# Altium integrated library Silicon Labs Clocks and Oscillators.IntLib: 678 symbols (part 23 of 45)
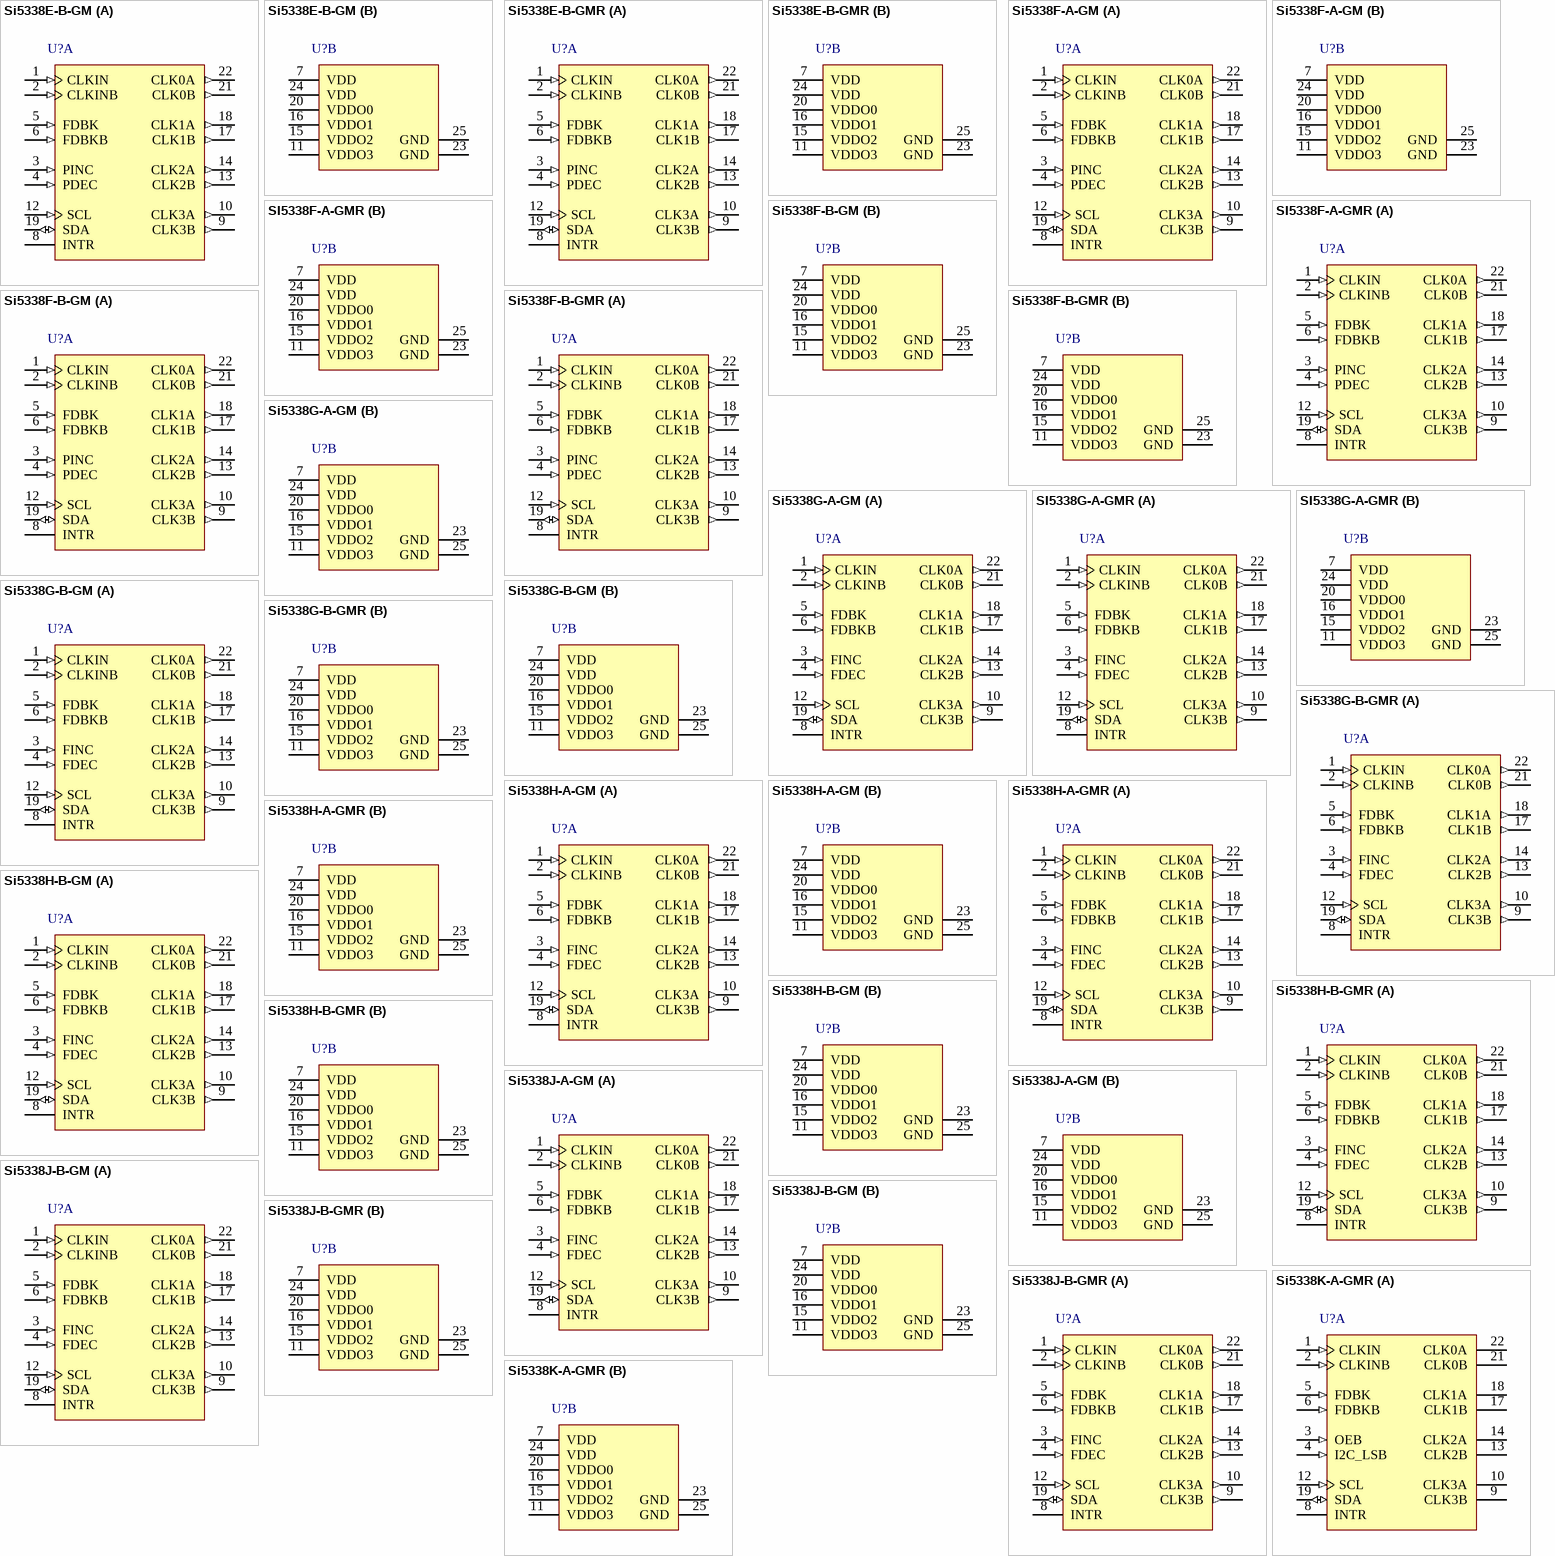
[diagram p66: symbols Si5338E-B-GM to Si5338K-A-GMR]

## Si5338G-B-GMR
designator U?
I2C-Programmable Any-Frequency, Any-Output Quad Clock Generator, 1.8 / 2.5 / 3.3 V, 0.16 to 710 MHz Output, -40 to 85 degC, 24-pin QFN, Tape and Reel; Manufacturer: Silicon Labs; PartNumber: Si5338G-B-GMR; Output Format: LVPECL; LVDS; LVCMOS; HCSL; SSTL; HSTL; Phase Jitter (RMS): 0.7 ps; Reference Inputs: 1; VDD: 1.8 V; 2.5 V; 3.3 V; Sub-Family: Clock Generators part2; DatasheetVersion: Rev. 1.3; PackageReference: QFN-24; PackageDescription: 24-Pin Quad-Flat No-Leads Package, Body 4 x 4 mm, Pitch 0.5 mm; Supplier 1: Digi-Key; Supplier Part Number 1: SI5338G-B-GMR-ND; Supplier 2: Mouser; Supplier Part Number 2: 634-SI5338G-B-GMR; Output Frequency (MHz): 0.16 to 710; Packing: Tape and Reel; Mounting Technology: Surface Mount; Code_JEDEC: MO-220; Code_IPC: J-STD-020; ComponentLink1Description: Manufacturer URL; ComponentLink1URL: http://www.silabs.com/; ComponentLink2Description: Datasheet; ComponentLink2URL: http://www.silabs.com/Support%20Documents/TechnicalDocs/Si5338.pdf; ComponentLink3Description: Package Specification; ComponentLink3URL: http://www.silabs.com/Support%20Documents/TechnicalDocs/Si5330.pdf
footprint SLAB-QFN-24-2500x2500TP_N (QFN, 24-Leads, Body 4x4mm, Pitch 0.5mm, Thermal Pad 2.5x2.5mm, IPC Medium Density)
footprint SLAB-QFN-24-2500x2500TP_L (QFN, 24-Leads, Body 4x4mm, Pitch 0.5mm, Thermal Pad 2.5x2.5mm, IPC High Density)
footprint SLAB-QFN-24-2500x2500TP_M (QFN, 24-Leads, Body 4x4mm, Pitch 0.5mm, Thermal Pad 2.5x2.5mm, IPC Low Density)
part A pins: 1 CLKIN (in) "These pins are used as the main differential clock input or as the XTAL input. See "3.2. Input Stage" on page 18, Figure 3 and Figure 4, for connection details. Clock inputs to these pins must be ac-coupled. Keep the traces (See Datasheet)", 2 CLKINB (in) "These pins are used as the main differential clock input or as the XTAL input. See "3.2. Input Stage" on page 18, Figure 3 and Figure 4, for connection details. Clock inputs to these pins must be ac-coupled. Keep the traces (See Datasheet)", 3 FINC (in) "FINC (for Si5338G/H/J devices only) Used as the frequency increment pin. See "3.10.1. Frequency Increment/Decrement" on page 26 for more details. Minimum pulse width of 100 ns is required for proper operation. If this pin is (See Datasheet)", 4 FDEC (in) "FDEC (for Si5338G/H/J devices only) Used as the frequency decrement pin. See “3.10.1. Frequency Increment/Decrement” for more details. Minimum pulse width of 100 ns is required for proper operation. If this pin is (See Datasheet)", 5 FDBK (in) "These pins can be used as a differential feedback input in zero delay mode or as a secondary clock input. See section 3.2, Figure 3, for termination details. See "3.10.6. Zero-Delay Mode" on page 27 for zero delay mode (See Datasheet)", 6 FDBKB (in) "These pins can be used as a differential feedback input in zero delay mode or as a secondary clock input. See section 3.2, Figure 3, for termination details. See "3.10.6. Zero-Delay Mode" on page 27 for zero delay mode (See Datasheet)", 8 INTR (oc) "Interrupt.", 9 CLK3B (out) "Output Clock B for Channel 3.", 10 CLK3A (out) "Output Clock A for Channel 3.", 12 SCL (in) "I2C Serial Clock Input", 13 CLK2B (out) "Output Clock B for Channel 2.", 14 CLK2A (out) "Output Clock A for Channel 2.", 17 CLK1B (out) "Output Clock B for Channel 1.", 18 CLK1A (out) "Output Clock A for Channel 1.", 19 SDA (io) "I2C Serial Data.", 21 CLK0B (out) "Output Clock B for Channel 0.", 22 CLK0A (out) "Output ClockA for Channel 0."
part B pins: 7 VDD (power) "Core Supply Voltage.", 11 VDDO3 (power) "Output Clock Supply Voltage.", 15 VDDO2 (power) "Output Clock Supply Voltage", 16 VDDO1 (power) "Output Clock Supply Voltage", 20 VDDO0 (power) "Output Clock Supply Voltage.", 23 GND (power) "Ground.", 24 VDD (power) "Core Supply Voltage.", 25 GND (power) "Ground Pad"

## Si5338H-A-GM
designator U?
I2C-Programmable Any-Frequency, Any-Output Quad Clock Generator, 1.8 / 2.5 / 3.3 V, 0.16 to 350 MHz Output, -40 to 85 degC, 24-pin QFN; Manufacturer: Silicon Labs; PartNumber: Si5338H-A-GM; Output Format: LVPECL; LVDS; LVCMOS; HCSL; SSTL; HSTL; Reference Inputs: 1; VDD: 1.8 V; 2.5 V; 3.3 V; Sub-Family: Clock Generators part2; DatasheetVersion: Rev. 1.3; PackageReference: QFN-24; PackageDescription: 24-Pin Quad-Flat No-Leads Package, Body 4 x 4 mm, Pitch 0.5 mm; Supplier 1: Digi-Key; Supplier Part Number 1: SI5338H-A-GM-ND; Supplier 2: Mouser; Supplier Part Number 2: 634-SI5338H-A-GM; Output Frequency (MHz): 0.16 to 350; Mounting Technology: Surface Mount; Code_JEDEC: MO-220; Code_IPC: J-STD-020; ComponentLink1Description: Manufacturer URL; ComponentLink1URL: http://www.silabs.com/; ComponentLink2Description: Datasheet; ComponentLink2URL: http://www.silabs.com/Support%20Documents/TechnicalDocs/Si5338.pdf; ComponentLink3Description: Package Specification; ComponentLink3URL: http://www.silabs.com/Support%20Documents/TechnicalDocs/Si5330.pdf
footprint SLAB-QFN-24-2500x2500TP_N (QFN, 24-Leads, Body 4x4mm, Pitch 0.5mm, Thermal Pad 2.5x2.5mm, IPC Medium Density)
footprint SLAB-QFN-24-2500x2500TP_L (QFN, 24-Leads, Body 4x4mm, Pitch 0.5mm, Thermal Pad 2.5x2.5mm, IPC High Density)
footprint SLAB-QFN-24-2500x2500TP_M (QFN, 24-Leads, Body 4x4mm, Pitch 0.5mm, Thermal Pad 2.5x2.5mm, IPC Low Density)
part A pins: 1 CLKIN (in) "These pins are used as the main differential clock input or as the XTAL input. See "3.2. Input Stage" on page 18, Figure 3 and Figure 4, for connection details. Clock inputs to these pins must be ac-coupled. Keep the traces (See Datasheet)", 2 CLKINB (in) "These pins are used as the main differential clock input or as the XTAL input. See "3.2. Input Stage" on page 18, Figure 3 and Figure 4, for connection details. Clock inputs to these pins must be ac-coupled. Keep the traces (See Datasheet)", 3 FINC (in) "FINC (for Si5338G/H/J devices only) Used as the frequency increment pin. See "3.10.1. Frequency Increment/Decrement" on page 26 for more details. Minimum pulse width of 100 ns is required for proper operation. If this pin is (See Datasheet)", 4 FDEC (in) "FDEC (for Si5338G/H/J devices only) Used as the frequency decrement pin. See “3.10.1. Frequency Increment/Decrement” for more details. Minimum pulse width of 100 ns is required for proper operation. If this pin is (See Datasheet)", 5 FDBK (in) "These pins can be used as a differential feedback input in zero delay mode or as a secondary clock input. See section 3.2, Figure 3, for termination details. See "3.10.6. Zero-Delay Mode" on page 27 for zero delay mode (See Datasheet)", 6 FDBKB (in) "These pins can be used as a differential feedback input in zero delay mode or as a secondary clock input. See section 3.2, Figure 3, for termination details. See "3.10.6. Zero-Delay Mode" on page 27 for zero delay mode (See Datasheet)", 8 INTR (oc) "Interrupt.", 9 CLK3B (out) "Output Clock B for Channel 3.", 10 CLK3A (out) "Output Clock A for Channel 3.", 12 SCL (in) "I2C Serial Clock Input", 13 CLK2B (out) "Output Clock B for Channel 2.", 14 CLK2A (out) "Output Clock A for Channel 2.", 17 CLK1B (out) "Output Clock B for Channel 1.", 18 CLK1A (out) "Output Clock A for Channel 1.", 19 SDA (io) "I2C Serial Data.", 21 CLK0B (out) "Output Clock B for Channel 0.", 22 CLK0A (out) "Output ClockA for Channel 0."
part B pins: 7 VDD (power) "Core Supply Voltage.", 11 VDDO3 (power) "Output Clock Supply Voltage.", 15 VDDO2 (power) "Output Clock Supply Voltage", 16 VDDO1 (power) "Output Clock Supply Voltage", 20 VDDO0 (power) "Output Clock Supply Voltage.", 23 GND (power) "Ground.", 24 VDD (power) "Core Supply Voltage.", 25 GND (power) "Ground Pad"

## Si5338H-A-GMR
designator U?
I2C-Programmable Any-Frequency, Any-Output Quad Clock Generator, 1.8 / 2.5 / 3.3 V, 0.16 to 350 MHz Output, -40 to 85 degC, 24-pin QFN, Tape and Reel; Manufacturer: Silicon Labs; PartNumber: Si5338H-A-GMR; Output Format: LVPECL; LVDS; LVCMOS; HCSL; SSTL; HSTL; Phase Jitter (RMS): 0.7 ps; Reference Inputs: 1; VDD: 1.8 V; 2.5 V; 3.3 V; Sub-Family: Clock Generators part2; DatasheetVersion: Rev. 1.3; PackageReference: QFN-24; PackageDescription: 24-Pin Quad-Flat No-Leads Package, Body 4 x 4 mm, Pitch 0.5 mm; Supplier 1: Mouser; Supplier Part Number 1: 634-SI5338H-A-GMR; Output Frequency (MHz): 0.16 to 350; Packing: Tape and Reel; Mounting Technology: Surface Mount; Code_JEDEC: MO-220; Code_IPC: J-STD-020; ComponentLink1Description: Manufacturer URL; ComponentLink1URL: http://www.silabs.com/; ComponentLink2Description: Datasheet; ComponentLink2URL: http://www.silabs.com/Support%20Documents/TechnicalDocs/Si5338.pdf; ComponentLink3Description: Package Specification; ComponentLink3URL: http://www.silabs.com/Support%20Documents/TechnicalDocs/Si5330.pdf
footprint SLAB-QFN-24-2500x2500TP_N (QFN, 24-Leads, Body 4x4mm, Pitch 0.5mm, Thermal Pad 2.5x2.5mm, IPC Medium Density)
footprint SLAB-QFN-24-2500x2500TP_L (QFN, 24-Leads, Body 4x4mm, Pitch 0.5mm, Thermal Pad 2.5x2.5mm, IPC High Density)
footprint SLAB-QFN-24-2500x2500TP_M (QFN, 24-Leads, Body 4x4mm, Pitch 0.5mm, Thermal Pad 2.5x2.5mm, IPC Low Density)
part A pins: 1 CLKIN (in) "These pins are used as the main differential clock input or as the XTAL input. See "3.2. Input Stage" on page 18, Figure 3 and Figure 4, for connection details. Clock inputs to these pins must be ac-coupled. Keep the traces (See Datasheet)", 2 CLKINB (in) "These pins are used as the main differential clock input or as the XTAL input. See "3.2. Input Stage" on page 18, Figure 3 and Figure 4, for connection details. Clock inputs to these pins must be ac-coupled. Keep the traces (See Datasheet)", 3 FINC (in) "FINC (for Si5338G/H/J devices only) Used as the frequency increment pin. See "3.10.1. Frequency Increment/Decrement" on page 26 for more details. Minimum pulse width of 100 ns is required for proper operation. If this pin is (See Datasheet)", 4 FDEC (in) "FDEC (for Si5338G/H/J devices only) Used as the frequency decrement pin. See “3.10.1. Frequency Increment/Decrement” for more details. Minimum pulse width of 100 ns is required for proper operation. If this pin is (See Datasheet)", 5 FDBK (in) "These pins can be used as a differential feedback input in zero delay mode or as a secondary clock input. See section 3.2, Figure 3, for termination details. See "3.10.6. Zero-Delay Mode" on page 27 for zero delay mode (See Datasheet)", 6 FDBKB (in) "These pins can be used as a differential feedback input in zero delay mode or as a secondary clock input. See section 3.2, Figure 3, for termination details. See "3.10.6. Zero-Delay Mode" on page 27 for zero delay mode (See Datasheet)", 8 INTR (oc) "Interrupt.", 9 CLK3B (out) "Output Clock B for Channel 3.", 10 CLK3A (out) "Output Clock A for Channel 3.", 12 SCL (in) "I2C Serial Clock Input", 13 CLK2B (out) "Output Clock B for Channel 2.", 14 CLK2A (out) "Output Clock A for Channel 2.", 17 CLK1B (out) "Output Clock B for Channel 1.", 18 CLK1A (out) "Output Clock A for Channel 1.", 19 SDA (io) "I2C Serial Data.", 21 CLK0B (out) "Output Clock B for Channel 0.", 22 CLK0A (out) "Output ClockA for Channel 0."
part B pins: 7 VDD (power) "Core Supply Voltage.", 11 VDDO3 (power) "Output Clock Supply Voltage.", 15 VDDO2 (power) "Output Clock Supply Voltage", 16 VDDO1 (power) "Output Clock Supply Voltage", 20 VDDO0 (power) "Output Clock Supply Voltage.", 23 GND (power) "Ground.", 24 VDD (power) "Core Supply Voltage.", 25 GND (power) "Ground Pad"

## Si5338H-B-GM
designator U?
I2C-Programmable Any-Frequency, Any-Output Quad Clock Generator, 1.8 / 2.5 / 3.3 V, 0.16 to 350 MHz Output, -40 to 85 degC, 24-pin QFN; Manufacturer: Silicon Labs; PartNumber: Si5338H-B-GM; Output Format: LVPECL; LVDS; LVCMOS; HCSL; SSTL; HSTL; Reference Inputs: 1; VDD: 1.8 V; 2.5 V; 3.3 V; Sub-Family: Clock Generators part2; DatasheetVersion: Rev. 1.3; PackageReference: QFN-24; PackageDescription: 24-Pin Quad-Flat No-Leads Package, Body 4 x 4 mm, Pitch 0.5 mm; Supplier 1: Digi-Key; Supplier Part Number 1: SI5338H-B-GM-ND; Supplier 2: Mouser; Supplier Part Number 2: 634-SI5338H-B-GM; Output Frequency (MHz): 0.16 to 350; Mounting Technology: Surface Mount; Code_JEDEC: MO-220; Code_IPC: J-STD-020; ComponentLink1Description: Manufacturer URL; ComponentLink1URL: http://www.silabs.com/; ComponentLink2Description: Datasheet; ComponentLink2URL: http://www.silabs.com/Support%20Documents/TechnicalDocs/Si5338.pdf; ComponentLink3Description: Package Specification; ComponentLink3URL: http://www.silabs.com/Support%20Documents/TechnicalDocs/Si5330.pdf
footprint SLAB-QFN-24-2500x2500TP_N (QFN, 24-Leads, Body 4x4mm, Pitch 0.5mm, Thermal Pad 2.5x2.5mm, IPC Medium Density)
footprint SLAB-QFN-24-2500x2500TP_L (QFN, 24-Leads, Body 4x4mm, Pitch 0.5mm, Thermal Pad 2.5x2.5mm, IPC High Density)
footprint SLAB-QFN-24-2500x2500TP_M (QFN, 24-Leads, Body 4x4mm, Pitch 0.5mm, Thermal Pad 2.5x2.5mm, IPC Low Density)
part A pins: 1 CLKIN (in) "These pins are used as the main differential clock input or as the XTAL input. See "3.2. Input Stage" on page 18, Figure 3 and Figure 4, for connection details. Clock inputs to these pins must be ac-coupled. Keep the traces (See Datasheet)", 2 CLKINB (in) "These pins are used as the main differential clock input or as the XTAL input. See "3.2. Input Stage" on page 18, Figure 3 and Figure 4, for connection details. Clock inputs to these pins must be ac-coupled. Keep the traces (See Datasheet)", 3 FINC (in) "FINC (for Si5338G/H/J devices only) Used as the frequency increment pin. See "3.10.1. Frequency Increment/Decrement" on page 26 for more details. Minimum pulse width of 100 ns is required for proper operation. If this pin is (See Datasheet)", 4 FDEC (in) "FDEC (for Si5338G/H/J devices only) Used as the frequency decrement pin. See “3.10.1. Frequency Increment/Decrement” for more details. Minimum pulse width of 100 ns is required for proper operation. If this pin is (See Datasheet)", 5 FDBK (in) "These pins can be used as a differential feedback input in zero delay mode or as a secondary clock input. See section 3.2, Figure 3, for termination details. See "3.10.6. Zero-Delay Mode" on page 27 for zero delay mode (See Datasheet)", 6 FDBKB (in) "These pins can be used as a differential feedback input in zero delay mode or as a secondary clock input. See section 3.2, Figure 3, for termination details. See "3.10.6. Zero-Delay Mode" on page 27 for zero delay mode (See Datasheet)", 8 INTR (oc) "Interrupt.", 9 CLK3B (out) "Output Clock B for Channel 3.", 10 CLK3A (out) "Output Clock A for Channel 3.", 12 SCL (in) "I2C Serial Clock Input", 13 CLK2B (out) "Output Clock B for Channel 2.", 14 CLK2A (out) "Output Clock A for Channel 2.", 17 CLK1B (out) "Output Clock B for Channel 1.", 18 CLK1A (out) "Output Clock A for Channel 1.", 19 SDA (io) "I2C Serial Data.", 21 CLK0B (out) "Output Clock B for Channel 0.", 22 CLK0A (out) "Output ClockA for Channel 0."
part B pins: 7 VDD (power) "Core Supply Voltage.", 11 VDDO3 (power) "Output Clock Supply Voltage.", 15 VDDO2 (power) "Output Clock Supply Voltage", 16 VDDO1 (power) "Output Clock Supply Voltage", 20 VDDO0 (power) "Output Clock Supply Voltage.", 23 GND (power) "Ground.", 24 VDD (power) "Core Supply Voltage.", 25 GND (power) "Ground Pad"

## Si5338H-B-GMR
designator U?
I2C-Programmable Any-Frequency, Any-Output Quad Clock Generator, 1.8 / 2.5 / 3.3 V, 0.16 to 350 MHz Output, -40 to 85 degC, 24-pin QFN, Tape and Reel; Manufacturer: Silicon Labs; PartNumber: Si5338H-B-GMR; Output Format: LVPECL; LVDS; LVCMOS; HCSL; SSTL; HSTL; Phase Jitter (RMS): 0.7 ps; Reference Inputs: 1; VDD: 1.8 V; 2.5 V; 3.3 V; Sub-Family: Clock Generators part2; DatasheetVersion: Rev. 1.3; PackageReference: QFN-24; PackageDescription: 24-Pin Quad-Flat No-Leads Package, Body 4 x 4 mm, Pitch 0.5 mm; Supplier 1: Digi-Key; Supplier Part Number 1: SI5338H-B-GMR-ND; Supplier 2: Mouser; Supplier Part Number 2: 634-SI5338H-B-GMR; Output Frequency (MHz): 0.16 to 350; Packing: Tape and Reel; Mounting Technology: Surface Mount; Code_JEDEC: MO-220; Code_IPC: J-STD-020; ComponentLink1Description: Manufacturer URL; ComponentLink1URL: http://www.silabs.com/; ComponentLink2Description: Datasheet; ComponentLink2URL: http://www.silabs.com/Support%20Documents/TechnicalDocs/Si5338.pdf; ComponentLink3Description: Package Specification; ComponentLink3URL: http://www.silabs.com/Support%20Documents/TechnicalDocs/Si5330.pdf
footprint SLAB-QFN-24-2500x2500TP_N (QFN, 24-Leads, Body 4x4mm, Pitch 0.5mm, Thermal Pad 2.5x2.5mm, IPC Medium Density)
footprint SLAB-QFN-24-2500x2500TP_L (QFN, 24-Leads, Body 4x4mm, Pitch 0.5mm, Thermal Pad 2.5x2.5mm, IPC High Density)
footprint SLAB-QFN-24-2500x2500TP_M (QFN, 24-Leads, Body 4x4mm, Pitch 0.5mm, Thermal Pad 2.5x2.5mm, IPC Low Density)
part A pins: 1 CLKIN (in) "These pins are used as the main differential clock input or as the XTAL input. See "3.2. Input Stage" on page 18, Figure 3 and Figure 4, for connection details. Clock inputs to these pins must be ac-coupled. Keep the traces (See Datasheet)", 2 CLKINB (in) "These pins are used as the main differential clock input or as the XTAL input. See "3.2. Input Stage" on page 18, Figure 3 and Figure 4, for connection details. Clock inputs to these pins must be ac-coupled. Keep the traces (See Datasheet)", 3 FINC (in) "FINC (for Si5338G/H/J devices only) Used as the frequency increment pin. See "3.10.1. Frequency Increment/Decrement" on page 26 for more details. Minimum pulse width of 100 ns is required for proper operation. If this pin is (See Datasheet)", 4 FDEC (in) "FDEC (for Si5338G/H/J devices only) Used as the frequency decrement pin. See “3.10.1. Frequency Increment/Decrement” for more details. Minimum pulse width of 100 ns is required for proper operation. If this pin is (See Datasheet)", 5 FDBK (in) "These pins can be used as a differential feedback input in zero delay mode or as a secondary clock input. See section 3.2, Figure 3, for termination details. See "3.10.6. Zero-Delay Mode" on page 27 for zero delay mode (See Datasheet)", 6 FDBKB (in) "These pins can be used as a differential feedback input in zero delay mode or as a secondary clock input. See section 3.2, Figure 3, for termination details. See "3.10.6. Zero-Delay Mode" on page 27 for zero delay mode (See Datasheet)", 8 INTR (oc) "Interrupt.", 9 CLK3B (out) "Output Clock B for Channel 3.", 10 CLK3A (out) "Output Clock A for Channel 3.", 12 SCL (in) "I2C Serial Clock Input", 13 CLK2B (out) "Output Clock B for Channel 2.", 14 CLK2A (out) "Output Clock A for Channel 2.", 17 CLK1B (out) "Output Clock B for Channel 1.", 18 CLK1A (out) "Output Clock A for Channel 1.", 19 SDA (io) "I2C Serial Data.", 21 CLK0B (out) "Output Clock B for Channel 0.", 22 CLK0A (out) "Output ClockA for Channel 0."
part B pins: 7 VDD (power) "Core Supply Voltage.", 11 VDDO3 (power) "Output Clock Supply Voltage.", 15 VDDO2 (power) "Output Clock Supply Voltage", 16 VDDO1 (power) "Output Clock Supply Voltage", 20 VDDO0 (power) "Output Clock Supply Voltage.", 23 GND (power) "Ground.", 24 VDD (power) "Core Supply Voltage.", 25 GND (power) "Ground Pad"

## Si5338J-A-GM
designator U?
I2C-Programmable Any-Frequency, Any-Output Quad Clock Generator, 1.8 / 2.5 / 3.3 V, 0.16 to 200 MHz Output, -40 to 85 degC, 24-pin QFN; Manufacturer: Silicon Labs; PartNumber: Si5338J-A-GM; Output Format: LVPECL; LVDS; LVCMOS; HCSL; SSTL; HSTL; Reference Inputs: 1; VDD: 1.8 V; 2.5 V; 3.3 V; Sub-Family: Clock Generators part2; DatasheetVersion: Rev. 1.3; PackageReference: QFN-24; PackageDescription: 24-Pin Quad-Flat No-Leads Package, Body 4 x 4 mm, Pitch 0.5 mm; Supplier 1: Digi-Key; Supplier Part Number 1: SI5338J-A-GM-ND; Supplier 2: Mouser; Supplier Part Number 2: 634-SI5338J-A-GM; Output Frequency (MHz): 0.16 to 200; Mounting Technology: Surface Mount; Code_JEDEC: MO-220; Code_IPC: J-STD-020; ComponentLink1Description: Manufacturer URL; ComponentLink1URL: http://www.silabs.com/; ComponentLink2Description: Datasheet; ComponentLink2URL: http://www.silabs.com/Support%20Documents/TechnicalDocs/Si5338.pdf; ComponentLink3Description: Package Specification; ComponentLink3URL: http://www.silabs.com/Support%20Documents/TechnicalDocs/Si5330.pdf
footprint SLAB-QFN-24-2500x2500TP_N (QFN, 24-Leads, Body 4x4mm, Pitch 0.5mm, Thermal Pad 2.5x2.5mm, IPC Medium Density)
footprint SLAB-QFN-24-2500x2500TP_L (QFN, 24-Leads, Body 4x4mm, Pitch 0.5mm, Thermal Pad 2.5x2.5mm, IPC High Density)
footprint SLAB-QFN-24-2500x2500TP_M (QFN, 24-Leads, Body 4x4mm, Pitch 0.5mm, Thermal Pad 2.5x2.5mm, IPC Low Density)
part A pins: 1 CLKIN (in) "These pins are used as the main differential clock input or as the XTAL input. See "3.2. Input Stage" on page 18, Figure 3 and Figure 4, for connection details. Clock inputs to these pins must be ac-coupled. Keep the traces (See Datasheet)", 2 CLKINB (in) "These pins are used as the main differential clock input or as the XTAL input. See "3.2. Input Stage" on page 18, Figure 3 and Figure 4, for connection details. Clock inputs to these pins must be ac-coupled. Keep the traces (See Datasheet)", 3 FINC (in) "FINC (for Si5338G/H/J devices only) Used as the frequency increment pin. See "3.10.1. Frequency Increment/Decrement" on page 26 for more details. Minimum pulse width of 100 ns is required for proper operation. If this pin is (See Datasheet)", 4 FDEC (in) "FDEC (for Si5338G/H/J devices only) Used as the frequency decrement pin. See “3.10.1. Frequency Increment/Decrement” for more details. Minimum pulse width of 100 ns is required for proper operation. If this pin is (See Datasheet)", 5 FDBK (in) "These pins can be used as a differential feedback input in zero delay mode or as a secondary clock input. See section 3.2, Figure 3, for termination details. See "3.10.6. Zero-Delay Mode" on page 27 for zero delay mode (See Datasheet)", 6 FDBKB (in) "These pins can be used as a differential feedback input in zero delay mode or as a secondary clock input. See section 3.2, Figure 3, for termination details. See "3.10.6. Zero-Delay Mode" on page 27 for zero delay mode (See Datasheet)", 8 INTR (oc) "Interrupt.", 9 CLK3B (out) "Output Clock B for Channel 3.", 10 CLK3A (out) "Output Clock A for Channel 3.", 12 SCL (in) "I2C Serial Clock Input", 13 CLK2B (out) "Output Clock B for Channel 2.", 14 CLK2A (out) "Output Clock A for Channel 2.", 17 CLK1B (out) "Output Clock B for Channel 1.", 18 CLK1A (out) "Output Clock A for Channel 1.", 19 SDA (io) "I2C Serial Data.", 21 CLK0B (out) "Output Clock B for Channel 0.", 22 CLK0A (out) "Output ClockA for Channel 0."
part B pins: 7 VDD (power) "Core Supply Voltage.", 11 VDDO3 (power) "Output Clock Supply Voltage.", 15 VDDO2 (power) "Output Clock Supply Voltage", 16 VDDO1 (power) "Output Clock Supply Voltage", 20 VDDO0 (power) "Output Clock Supply Voltage.", 23 GND (power) "Ground.", 24 VDD (power) "Core Supply Voltage.", 25 GND (power) "Ground Pad"

## Si5338J-B-GM
designator U?
I2C-Programmable Any-Frequency, Any-Output Quad Clock Generator, 1.8 / 2.5 / 3.3 V, 0.16 to 200 MHz Output, -40 to 85 degC, 24-pin QFN; Manufacturer: Silicon Labs; PartNumber: Si5338J-B-GM; Output Format: LVPECL; LVDS; LVCMOS; HCSL; SSTL; HSTL; Reference Inputs: 1; VDD: 1.8 V; 2.5 V; 3.3 V; Sub-Family: Clock Generators part2; DatasheetVersion: Rev. 1.3; PackageReference: QFN-24; PackageDescription: 24-Pin Quad-Flat No-Leads Package, Body 4 x 4 mm, Pitch 0.5 mm; Supplier 1: Digi-Key; Supplier Part Number 1: SI5338J-B-GM-ND; Supplier 2: Mouser; Supplier Part Number 2: 634-SI5338J-B-GM; Output Frequency (MHz): 0.16 to 200; Mounting Technology: Surface Mount; Code_JEDEC: MO-220; Code_IPC: J-STD-020; ComponentLink1Description: Manufacturer URL; ComponentLink1URL: http://www.silabs.com/; ComponentLink2Description: Datasheet; ComponentLink2URL: http://www.silabs.com/Support%20Documents/TechnicalDocs/Si5338.pdf; ComponentLink3Description: Package Specification; ComponentLink3URL: http://www.silabs.com/Support%20Documents/TechnicalDocs/Si5330.pdf
footprint SLAB-QFN-24-2500x2500TP_N (QFN, 24-Leads, Body 4x4mm, Pitch 0.5mm, Thermal Pad 2.5x2.5mm, IPC Medium Density)
footprint SLAB-QFN-24-2500x2500TP_L (QFN, 24-Leads, Body 4x4mm, Pitch 0.5mm, Thermal Pad 2.5x2.5mm, IPC High Density)
footprint SLAB-QFN-24-2500x2500TP_M (QFN, 24-Leads, Body 4x4mm, Pitch 0.5mm, Thermal Pad 2.5x2.5mm, IPC Low Density)
part A pins: 1 CLKIN (in) "These pins are used as the main differential clock input or as the XTAL input. See "3.2. Input Stage" on page 18, Figure 3 and Figure 4, for connection details. Clock inputs to these pins must be ac-coupled. Keep the traces (See Datasheet)", 2 CLKINB (in) "These pins are used as the main differential clock input or as the XTAL input. See "3.2. Input Stage" on page 18, Figure 3 and Figure 4, for connection details. Clock inputs to these pins must be ac-coupled. Keep the traces (See Datasheet)", 3 FINC (in) "FINC (for Si5338G/H/J devices only) Used as the frequency increment pin. See "3.10.1. Frequency Increment/Decrement" on page 26 for more details. Minimum pulse width of 100 ns is required for proper operation. If this pin is (See Datasheet)", 4 FDEC (in) "FDEC (for Si5338G/H/J devices only) Used as the frequency decrement pin. See “3.10.1. Frequency Increment/Decrement” for more details. Minimum pulse width of 100 ns is required for proper operation. If this pin is (See Datasheet)", 5 FDBK (in) "These pins can be used as a differential feedback input in zero delay mode or as a secondary clock input. See section 3.2, Figure 3, for termination details. See "3.10.6. Zero-Delay Mode" on page 27 for zero delay mode (See Datasheet)", 6 FDBKB (in) "These pins can be used as a differential feedback input in zero delay mode or as a secondary clock input. See section 3.2, Figure 3, for termination details. See "3.10.6. Zero-Delay Mode" on page 27 for zero delay mode (See Datasheet)", 8 INTR (oc) "Interrupt.", 9 CLK3B (out) "Output Clock B for Channel 3.", 10 CLK3A (out) "Output Clock A for Channel 3.", 12 SCL (in) "I2C Serial Clock Input", 13 CLK2B (out) "Output Clock B for Channel 2.", 14 CLK2A (out) "Output Clock A for Channel 2.", 17 CLK1B (out) "Output Clock B for Channel 1.", 18 CLK1A (out) "Output Clock A for Channel 1.", 19 SDA (io) "I2C Serial Data.", 21 CLK0B (out) "Output Clock B for Channel 0.", 22 CLK0A (out) "Output ClockA for Channel 0."
part B pins: 7 VDD (power) "Core Supply Voltage.", 11 VDDO3 (power) "Output Clock Supply Voltage.", 15 VDDO2 (power) "Output Clock Supply Voltage", 16 VDDO1 (power) "Output Clock Supply Voltage", 20 VDDO0 (power) "Output Clock Supply Voltage.", 23 GND (power) "Ground.", 24 VDD (power) "Core Supply Voltage.", 25 GND (power) "Ground Pad"

## Si5338J-B-GMR
designator U?
I2C-Programmable Any-Frequency, Any-Output Quad Clock Generator, 1.8 / 2.5 / 3.3 V, 0.16 to 200 MHz Output, -40 to 85 degC, 24-pin QFN, Tape and Reel; Manufacturer: Silicon Labs; PartNumber: Si5338J-B-GMR; Output Format: LVPECL; LVDS; LVCMOS; HCSL; SSTL; HSTL; Phase Jitter (RMS): 0.7 ps; Reference Inputs: 1; VDD: 1.8 V; 2.5 V; 3.3 V; Sub-Family: Clock Generators part2; DatasheetVersion: Rev. 1.3; PackageReference: QFN-24; PackageDescription: 24-Pin Quad-Flat No-Leads Package, Body 4 x 4 mm, Pitch 0.5 mm; Supplier 1: Digi-Key; Supplier Part Number 1: SI5338J-B-GMR-ND; Supplier 2: Mouser; Supplier Part Number 2: 634-SI5338J-B-GMR; Output Frequency (MHz): 0.16 to 200; Packing: Tape and Reel; Mounting Technology: Surface Mount; Code_JEDEC: MO-220; Code_IPC: J-STD-020; ComponentLink1Description: Manufacturer URL; ComponentLink1URL: http://www.silabs.com/; ComponentLink2Description: Datasheet; ComponentLink2URL: http://www.silabs.com/Support%20Documents/TechnicalDocs/Si5338.pdf; ComponentLink3Description: Package Specification; ComponentLink3URL: http://www.silabs.com/Support%20Documents/TechnicalDocs/Si5330.pdf
footprint SLAB-QFN-24-2500x2500TP_N (QFN, 24-Leads, Body 4x4mm, Pitch 0.5mm, Thermal Pad 2.5x2.5mm, IPC Medium Density)
footprint SLAB-QFN-24-2500x2500TP_L (QFN, 24-Leads, Body 4x4mm, Pitch 0.5mm, Thermal Pad 2.5x2.5mm, IPC High Density)
footprint SLAB-QFN-24-2500x2500TP_M (QFN, 24-Leads, Body 4x4mm, Pitch 0.5mm, Thermal Pad 2.5x2.5mm, IPC Low Density)
part A pins: 1 CLKIN (in) "These pins are used as the main differential clock input or as the XTAL input. See "3.2. Input Stage" on page 18, Figure 3 and Figure 4, for connection details. Clock inputs to these pins must be ac-coupled. Keep the traces (See Datasheet)", 2 CLKINB (in) "These pins are used as the main differential clock input or as the XTAL input. See "3.2. Input Stage" on page 18, Figure 3 and Figure 4, for connection details. Clock inputs to these pins must be ac-coupled. Keep the traces (See Datasheet)", 3 FINC (in) "FINC (for Si5338G/H/J devices only) Used as the frequency increment pin. See "3.10.1. Frequency Increment/Decrement" on page 26 for more details. Minimum pulse width of 100 ns is required for proper operation. If this pin is (See Datasheet)", 4 FDEC (in) "FDEC (for Si5338G/H/J devices only) Used as the frequency decrement pin. See “3.10.1. Frequency Increment/Decrement” for more details. Minimum pulse width of 100 ns is required for proper operation. If this pin is (See Datasheet)", 5 FDBK (in) "These pins can be used as a differential feedback input in zero delay mode or as a secondary clock input. See section 3.2, Figure 3, for termination details. See "3.10.6. Zero-Delay Mode" on page 27 for zero delay mode (See Datasheet)", 6 FDBKB (in) "These pins can be used as a differential feedback input in zero delay mode or as a secondary clock input. See section 3.2, Figure 3, for termination details. See "3.10.6. Zero-Delay Mode" on page 27 for zero delay mode (See Datasheet)", 8 INTR (oc) "Interrupt.", 9 CLK3B (out) "Output Clock B for Channel 3.", 10 CLK3A (out) "Output Clock A for Channel 3.", 12 SCL (in) "I2C Serial Clock Input", 13 CLK2B (out) "Output Clock B for Channel 2.", 14 CLK2A (out) "Output Clock A for Channel 2.", 17 CLK1B (out) "Output Clock B for Channel 1.", 18 CLK1A (out) "Output Clock A for Channel 1.", 19 SDA (io) "I2C Serial Data.", 21 CLK0B (out) "Output Clock B for Channel 0.", 22 CLK0A (out) "Output ClockA for Channel 0."
part B pins: 7 VDD (power) "Core Supply Voltage.", 11 VDDO3 (power) "Output Clock Supply Voltage.", 15 VDDO2 (power) "Output Clock Supply Voltage", 16 VDDO1 (power) "Output Clock Supply Voltage", 20 VDDO0 (power) "Output Clock Supply Voltage.", 23 GND (power) "Ground.", 24 VDD (power) "Core Supply Voltage.", 25 GND (power) "Ground Pad"

## Si5338K-A-GMR
designator U?
I2C-Programmable Any-Frequency, Any-Output Quad Clock Generator, 1.8 / 2.5 / 3.3 V, 0.16 to 710 MHz Output, -40 to 85 degC, 24-pin QFN, Tape and Reel; Manufacturer: Silicon Labs; PartNumber: Si5338K-A-GMR; Output Format: LVPECL; LVDS; LVCMOS; HCSL; SSTL; HSTL; Phase Jitter (RMS): 0.7 ps; Reference Inputs: 1; VDD: 1.8 V; 2.5 V; 3.3 V; Sub-Family: Clock Generators part2; DatasheetVersion: Rev. 1.3; PackageReference: QFN-24; PackageDescription: 24-Pin Quad-Flat No-Leads Package, Body 4 x 4 mm, Pitch 0.5 mm; Supplier 1: Mouser; Supplier Part Number 1: 634-SI5338K-A-GMR; Output Frequency (MHz): 0.16 to 710; Packing: Tape and Reel; Mounting Technology: Surface Mount; Code_JEDEC: MO-220; Code_IPC: J-STD-020; ComponentLink1Description: Manufacturer URL; ComponentLink1URL: http://www.silabs.com/; ComponentLink2Description: Datasheet; ComponentLink2URL: http://www.silabs.com/Support%20Documents/TechnicalDocs/Si5338.pdf; ComponentLink3Description: Package Specification; ComponentLink3URL: http://www.silabs.com/Support%20Documents/TechnicalDocs/Si5330.pdf
footprint SLAB-QFN-24-2500x2500TP_N (QFN, 24-Leads, Body 4x4mm, Pitch 0.5mm, Thermal Pad 2.5x2.5mm, IPC Medium Density)
footprint SLAB-QFN-24-2500x2500TP_L (QFN, 24-Leads, Body 4x4mm, Pitch 0.5mm, Thermal Pad 2.5x2.5mm, IPC High Density)
footprint SLAB-QFN-24-2500x2500TP_M (QFN, 24-Leads, Body 4x4mm, Pitch 0.5mm, Thermal Pad 2.5x2.5mm, IPC Low Density)
part A pins: 1 CLKIN (in) "These pins are used as the main differential clock input or as the XTAL input. See 3.2. Input Stage on page 18, Figure 3 and Figure 4, for connection details. Clock inputs to these pins must be ac-coupled. Keep the traces (See Datasheet)", 2 CLKINB (in) "These pins are used as the main differential clock input or as the XTAL input. See 3.2. Input Stage on page 18, Figure 3 and Figure 4, for connection details. Clock inputs to these pins must be ac-coupled. Keep the traces (See Datasheet)", 3 OEB (in) "OEB (for Si5338K/L/M devices only) Used as an output enable pin. 0 = All outputs enabled; 1 = All outputs disabled. By default, outputs are tri-stated when disabled", 4 I2C_LSB (in) "I2C_LSB (for Si5338A/B/C and Si5338K/L/M devices only) This is the LSB of the Si5338 I2C address. 0 = I2C address 70h (111 0000), 1 = I2C address 71h (111 0001).", 5 FDBK (in) "These pins can be used as a differential feedback input in zero delay mode or as a secondary clock input. See section 3.2, Figure 3, for termination details. See "3.10.6. Zero-Delay Mode" on page 27 for zero delay mode (See Datasheet)", 6 FDBKB (in) "These pins can be used as a differential feedback input in zero delay mode or as a secondary clock input. See section 3.2, Figure 3, for termination details. See "3.10.6. Zero-Delay Mode" on page 27 for zero delay mode (See Datasheet)", 8 INTR (oc) "Interrupt.", 9 CLK3B (hiz) "Output Clock B for Channel 3.", 10 CLK3A (hiz) "Output Clock A for Channel 3.", 12 SCL (in) "I2C Serial Clock Input", 13 CLK2B (hiz) "Output Clock B for Channel 2.", 14 CLK2A (hiz) "Output Clock A for Channel 2.", 17 CLK1B (hiz) "Output Clock B for Channel 1.", 18 CLK1A (hiz) "Output Clock A for Channel 1.", 19 SDA (io) "I2C Serial Data.", 21 CLK0B (hiz) "Output Clock B for Channel 0.", 22 CLK0A (hiz) "Output ClockA for Channel 0."
part B pins: 7 VDD (power) "Core Supply Voltage.", 11 VDDO3 (power) "Output Clock Supply Voltage.", 15 VDDO2 (power) "Output Clock Supply Voltage", 16 VDDO1 (power) "Output Clock Supply Voltage", 20 VDDO0 (power) "Output Clock Supply Voltage.", 23 GND (power) "Ground.", 24 VDD (power) "Core Supply Voltage.", 25 GND (power) "Ground Pad"

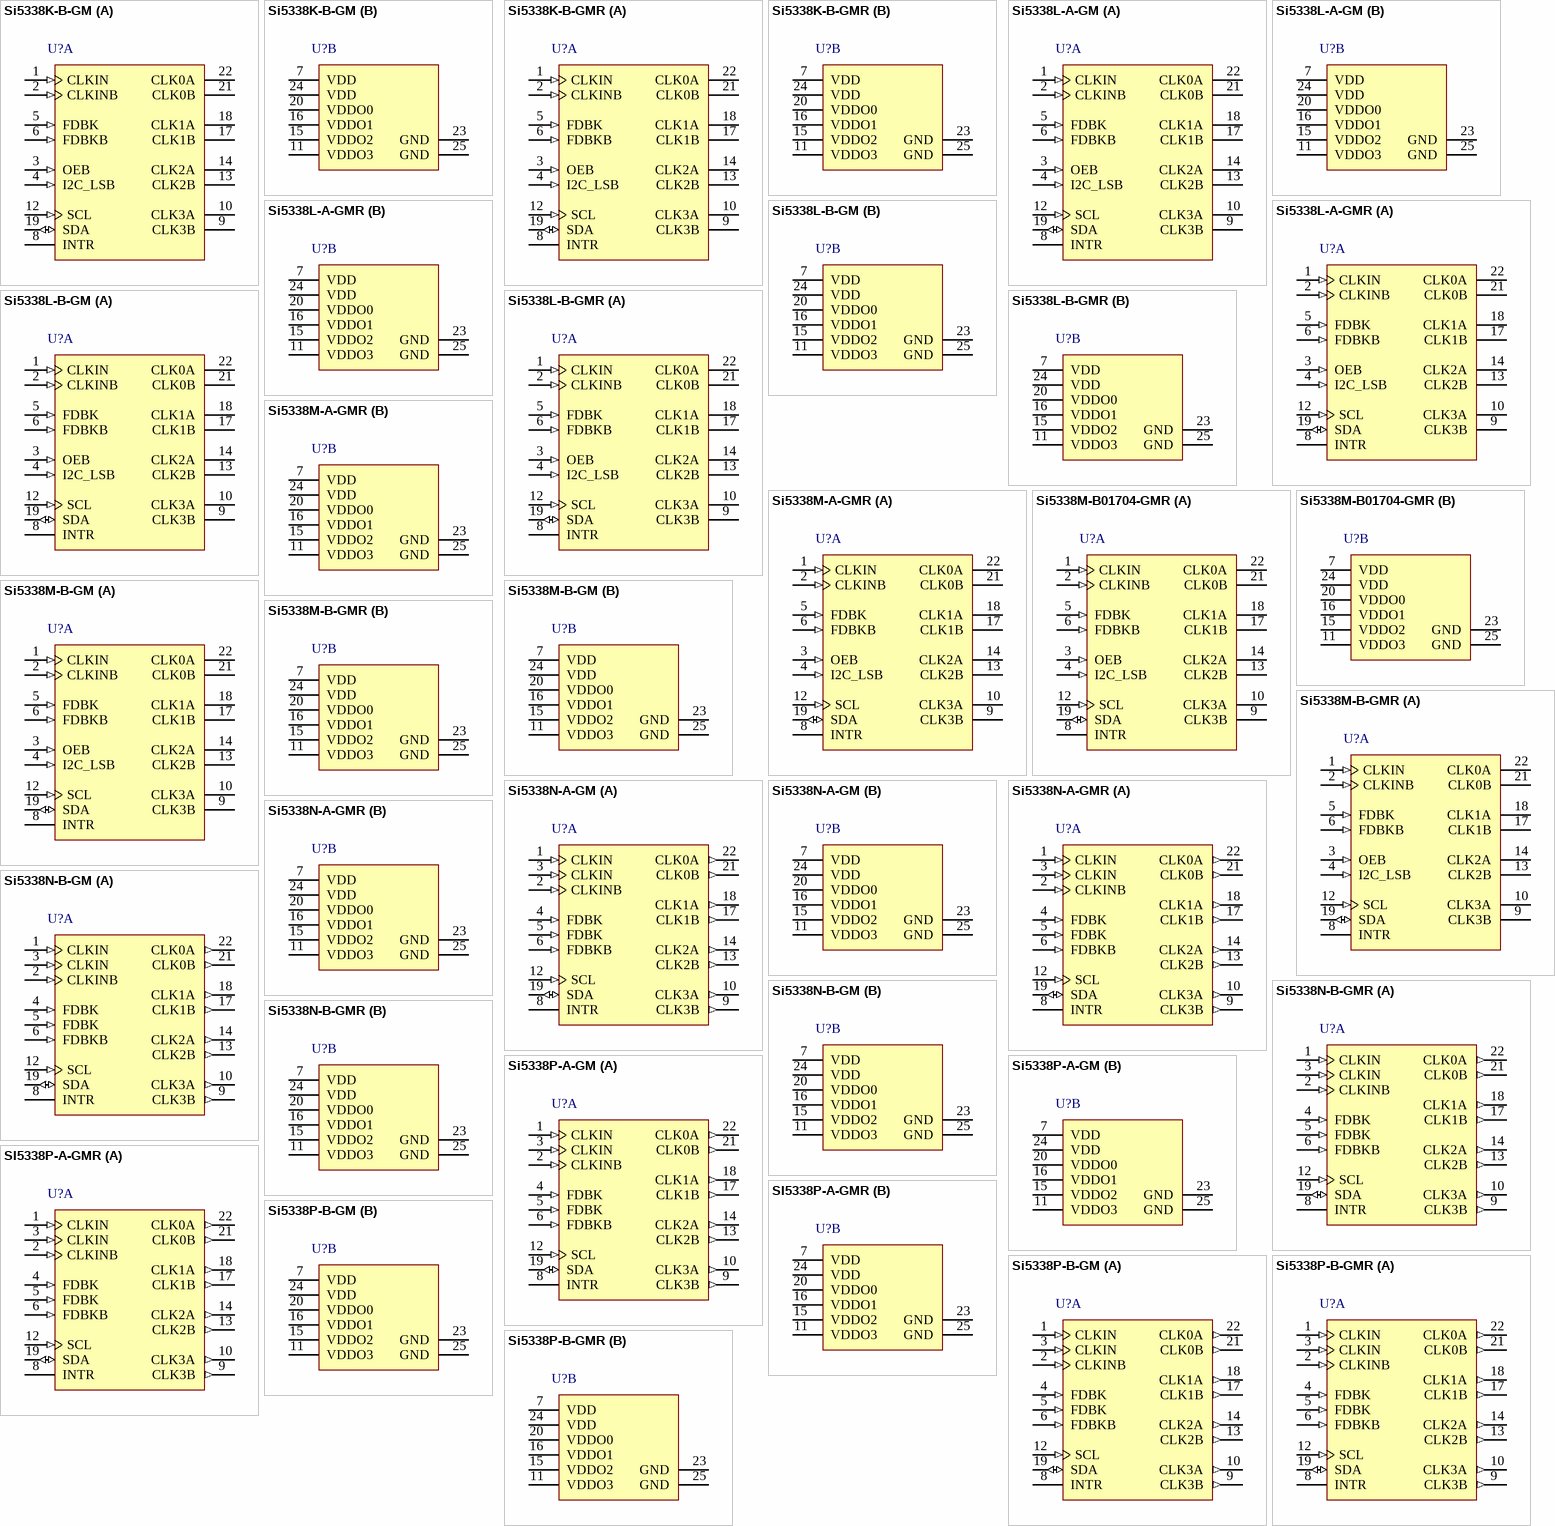
[diagram p24: symbols Si5338K-B-GM to Si5338P-B-GMR]

## Si5338K-B-GM
designator U?
I2C-Programmable Any-Frequency, Any-Output Quad Clock Generator, 1.8 / 2.5 / 3.3 V, 0.16 to 710 MHz Output, -40 to 85 degC, 24-pin QFN; Manufacturer: Silicon Labs; PartNumber: Si5338K-B-GM; Output Format: LVPECL; LVDS; LVCMOS; HCSL; SSTL; HSTL; Reference Inputs: 1; VDD: 1.8 V; 2.5 V; 3.3 V; Sub-Family: Clock Generators part2; DatasheetVersion: Rev. 1.3; PackageReference: QFN-24; PackageDescription: 24-Pin Quad-Flat No-Leads Package, Body 4 x 4 mm, Pitch 0.5 mm; Supplier 1: Digi-Key; Supplier Part Number 1: SI5338K-B-GM-ND; Supplier 2: Mouser; Supplier Part Number 2: 634-SI5338K-B-GM; Output Frequency (MHz): 0.16 to 710; Mounting Technology: Surface Mount; Code_JEDEC: MO-220; Code_IPC: J-STD-020; ComponentLink1Description: Manufacturer URL; ComponentLink1URL: http://www.silabs.com/; ComponentLink2Description: Datasheet; ComponentLink2URL: http://www.silabs.com/Support%20Documents/TechnicalDocs/Si5338.pdf; ComponentLink3Description: Package Specification; ComponentLink3URL: http://www.silabs.com/Support%20Documents/TechnicalDocs/Si5330.pdf
footprint SLAB-QFN-24-2500x2500TP_N (QFN, 24-Leads, Body 4x4mm, Pitch 0.5mm, Thermal Pad 2.5x2.5mm, IPC Medium Density)
footprint SLAB-QFN-24-2500x2500TP_L (QFN, 24-Leads, Body 4x4mm, Pitch 0.5mm, Thermal Pad 2.5x2.5mm, IPC High Density)
footprint SLAB-QFN-24-2500x2500TP_M (QFN, 24-Leads, Body 4x4mm, Pitch 0.5mm, Thermal Pad 2.5x2.5mm, IPC Low Density)
part A pins: 1 CLKIN (in) "These pins are used as the main differential clock input or as the XTAL input. See 3.2. Input Stage on page 18, Figure 3 and Figure 4, for connection details. Clock inputs to these pins must be ac-coupled. Keep the traces (See Datasheet)", 2 CLKINB (in) "These pins are used as the main differential clock input or as the XTAL input. See 3.2. Input Stage on page 18, Figure 3 and Figure 4, for connection details. Clock inputs to these pins must be ac-coupled. Keep the traces (See Datasheet)", 3 OEB (in) "OEB (for Si5338K/L/M devices only) Used as an output enable pin. 0 = All outputs enabled; 1 = All outputs disabled. By default, outputs are tri-stated when disabled", 4 I2C_LSB (in) "I2C_LSB (for Si5338A/B/C and Si5338K/L/M devices only) This is the LSB of the Si5338 I2C address. 0 = I2C address 70h (111 0000), 1 = I2C address 71h (111 0001).", 5 FDBK (in) "These pins can be used as a differential feedback input in zero delay mode or as a secondary clock input. See section 3.2, Figure 3, for termination details. See "3.10.6. Zero-Delay Mode" on page 27 for zero delay mode (See Datasheet)", 6 FDBKB (in) "These pins can be used as a differential feedback input in zero delay mode or as a secondary clock input. See section 3.2, Figure 3, for termination details. See "3.10.6. Zero-Delay Mode" on page 27 for zero delay mode (See Datasheet)", 8 INTR (oc) "Interrupt.", 9 CLK3B (hiz) "Output Clock B for Channel 3.", 10 CLK3A (hiz) "Output Clock A for Channel 3.", 12 SCL (in) "I2C Serial Clock Input", 13 CLK2B (hiz) "Output Clock B for Channel 2.", 14 CLK2A (hiz) "Output Clock A for Channel 2.", 17 CLK1B (hiz) "Output Clock B for Channel 1.", 18 CLK1A (hiz) "Output Clock A for Channel 1.", 19 SDA (io) "I2C Serial Data.", 21 CLK0B (hiz) "Output Clock B for Channel 0.", 22 CLK0A (hiz) "Output ClockA for Channel 0."
part B pins: 7 VDD (power) "Core Supply Voltage.", 11 VDDO3 (power) "Output Clock Supply Voltage.", 15 VDDO2 (power) "Output Clock Supply Voltage", 16 VDDO1 (power) "Output Clock Supply Voltage", 20 VDDO0 (power) "Output Clock Supply Voltage.", 23 GND (power) "Ground.", 24 VDD (power) "Core Supply Voltage.", 25 GND (power) "Ground Pad"

## Si5338K-B-GMR
designator U?
I2C-Programmable Any-Frequency, Any-Output Quad Clock Generator, 1.8 / 2.5 / 3.3 V, 0.16 to 710 MHz Output, -40 to 85 degC, 24-pin QFN, Tape and Reel; Manufacturer: Silicon Labs; PartNumber: Si5338K-B-GMR; Output Format: LVPECL; LVDS; LVCMOS; HCSL; SSTL; HSTL; Phase Jitter (RMS): 0.7 ps; Reference Inputs: 1; VDD: 1.8 V; 2.5 V; 3.3 V; Sub-Family: Clock Generators part2; DatasheetVersion: Rev. 1.3; PackageReference: QFN-24; PackageDescription: 24-Pin Quad-Flat No-Leads Package, Body 4 x 4 mm, Pitch 0.5 mm; Supplier 1: Digi-Key; Supplier Part Number 1: SI5338K-B-GMR-ND; Supplier 2: Mouser; Supplier Part Number 2: 634-SI5338K-B-GMR; Output Frequency (MHz): 0.16 to 710; Packing: Tape and Reel; Mounting Technology: Surface Mount; Code_JEDEC: MO-220; Code_IPC: J-STD-020; ComponentLink1Description: Manufacturer URL; ComponentLink1URL: http://www.silabs.com/; ComponentLink2Description: Datasheet; ComponentLink2URL: http://www.silabs.com/Support%20Documents/TechnicalDocs/Si5338.pdf; ComponentLink3Description: Package Specification; ComponentLink3URL: http://www.silabs.com/Support%20Documents/TechnicalDocs/Si5330.pdf
footprint SLAB-QFN-24-2500x2500TP_N (QFN, 24-Leads, Body 4x4mm, Pitch 0.5mm, Thermal Pad 2.5x2.5mm, IPC Medium Density)
footprint SLAB-QFN-24-2500x2500TP_L (QFN, 24-Leads, Body 4x4mm, Pitch 0.5mm, Thermal Pad 2.5x2.5mm, IPC High Density)
footprint SLAB-QFN-24-2500x2500TP_M (QFN, 24-Leads, Body 4x4mm, Pitch 0.5mm, Thermal Pad 2.5x2.5mm, IPC Low Density)
part A pins: 1 CLKIN (in) "These pins are used as the main differential clock input or as the XTAL input. See 3.2. Input Stage on page 18, Figure 3 and Figure 4, for connection details. Clock inputs to these pins must be ac-coupled. Keep the traces (See Datasheet)", 2 CLKINB (in) "These pins are used as the main differential clock input or as the XTAL input. See 3.2. Input Stage on page 18, Figure 3 and Figure 4, for connection details. Clock inputs to these pins must be ac-coupled. Keep the traces (See Datasheet)", 3 OEB (in) "OEB (for Si5338K/L/M devices only) Used as an output enable pin. 0 = All outputs enabled; 1 = All outputs disabled. By default, outputs are tri-stated when disabled", 4 I2C_LSB (in) "I2C_LSB (for Si5338A/B/C and Si5338K/L/M devices only) This is the LSB of the Si5338 I2C address. 0 = I2C address 70h (111 0000), 1 = I2C address 71h (111 0001).", 5 FDBK (in) "These pins can be used as a differential feedback input in zero delay mode or as a secondary clock input. See section 3.2, Figure 3, for termination details. See "3.10.6. Zero-Delay Mode" on page 27 for zero delay mode (See Datasheet)", 6 FDBKB (in) "These pins can be used as a differential feedback input in zero delay mode or as a secondary clock input. See section 3.2, Figure 3, for termination details. See "3.10.6. Zero-Delay Mode" on page 27 for zero delay mode (See Datasheet)", 8 INTR (oc) "Interrupt.", 9 CLK3B (hiz) "Output Clock B for Channel 3.", 10 CLK3A (hiz) "Output Clock A for Channel 3.", 12 SCL (in) "I2C Serial Clock Input", 13 CLK2B (hiz) "Output Clock B for Channel 2.", 14 CLK2A (hiz) "Output Clock A for Channel 2.", 17 CLK1B (hiz) "Output Clock B for Channel 1.", 18 CLK1A (hiz) "Output Clock A for Channel 1.", 19 SDA (io) "I2C Serial Data.", 21 CLK0B (hiz) "Output Clock B for Channel 0.", 22 CLK0A (hiz) "Output ClockA for Channel 0."
part B pins: 7 VDD (power) "Core Supply Voltage.", 11 VDDO3 (power) "Output Clock Supply Voltage.", 15 VDDO2 (power) "Output Clock Supply Voltage", 16 VDDO1 (power) "Output Clock Supply Voltage", 20 VDDO0 (power) "Output Clock Supply Voltage.", 23 GND (power) "Ground.", 24 VDD (power) "Core Supply Voltage.", 25 GND (power) "Ground Pad"

## Si5338L-A-GM
designator U?
I2C-Programmable Any-Frequency, Any-Output Quad Clock Generator, 1.8 / 2.5 / 3.3 V, 0.16 to 350 MHz Output, -40 to 85 degC, 24-pin QFN; Manufacturer: Silicon Labs; PartNumber: Si5338L-A-GM; Output Format: LVPECL; LVDS; LVCMOS; HCSL; SSTL; HSTL; Reference Inputs: 1; VDD: 1.8 V; 2.5 V; 3.3 V; Sub-Family: Clock Generators part2; DatasheetVersion: Rev. 1.3; PackageReference: QFN-24; PackageDescription: 24-Pin Quad-Flat No-Leads Package, Body 4 x 4 mm, Pitch 0.5 mm; Supplier 1: Digi-Key; Supplier Part Number 1: SI5338L-A-GM-ND; Supplier 2: Mouser; Supplier Part Number 2: 634-SI5338L-A-GM; Output Frequency (MHz): 0.16 to 350; Mounting Technology: Surface Mount; Code_JEDEC: MO-220; Code_IPC: J-STD-020; ComponentLink1Description: Manufacturer URL; ComponentLink1URL: http://www.silabs.com/; ComponentLink2Description: Datasheet; ComponentLink2URL: http://www.silabs.com/Support%20Documents/TechnicalDocs/Si5338.pdf; ComponentLink3Description: Package Specification; ComponentLink3URL: http://www.silabs.com/Support%20Documents/TechnicalDocs/Si5330.pdf
footprint SLAB-QFN-24-2500x2500TP_N (QFN, 24-Leads, Body 4x4mm, Pitch 0.5mm, Thermal Pad 2.5x2.5mm, IPC Medium Density)
footprint SLAB-QFN-24-2500x2500TP_L (QFN, 24-Leads, Body 4x4mm, Pitch 0.5mm, Thermal Pad 2.5x2.5mm, IPC High Density)
footprint SLAB-QFN-24-2500x2500TP_M (QFN, 24-Leads, Body 4x4mm, Pitch 0.5mm, Thermal Pad 2.5x2.5mm, IPC Low Density)
part A pins: 1 CLKIN (in) "These pins are used as the main differential clock input or as the XTAL input. See 3.2. Input Stage on page 18, Figure 3 and Figure 4, for connection details. Clock inputs to these pins must be ac-coupled. Keep the traces (See Datasheet)", 2 CLKINB (in) "These pins are used as the main differential clock input or as the XTAL input. See 3.2. Input Stage on page 18, Figure 3 and Figure 4, for connection details. Clock inputs to these pins must be ac-coupled. Keep the traces (See Datasheet)", 3 OEB (in) "OEB (for Si5338K/L/M devices only) Used as an output enable pin. 0 = All outputs enabled; 1 = All outputs disabled. By default, outputs are tri-stated when disabled", 4 I2C_LSB (in) "I2C_LSB (for Si5338A/B/C and Si5338K/L/M devices only) This is the LSB of the Si5338 I2C address. 0 = I2C address 70h (111 0000), 1 = I2C address 71h (111 0001).", 5 FDBK (in) "These pins can be used as a differential feedback input in zero delay mode or as a secondary clock input. See section 3.2, Figure 3, for termination details. See "3.10.6. Zero-Delay Mode" on page 27 for zero delay mode (See Datasheet)", 6 FDBKB (in) "These pins can be used as a differential feedback input in zero delay mode or as a secondary clock input. See section 3.2, Figure 3, for termination details. See "3.10.6. Zero-Delay Mode" on page 27 for zero delay mode (See Datasheet)", 8 INTR (oc) "Interrupt.", 9 CLK3B (hiz) "Output Clock B for Channel 3.", 10 CLK3A (hiz) "Output Clock A for Channel 3.", 12 SCL (in) "I2C Serial Clock Input", 13 CLK2B (hiz) "Output Clock B for Channel 2.", 14 CLK2A (hiz) "Output Clock A for Channel 2.", 17 CLK1B (hiz) "Output Clock B for Channel 1.", 18 CLK1A (hiz) "Output Clock A for Channel 1.", 19 SDA (io) "I2C Serial Data.", 21 CLK0B (hiz) "Output Clock B for Channel 0.", 22 CLK0A (hiz) "Output ClockA for Channel 0."
part B pins: 7 VDD (power) "Core Supply Voltage.", 11 VDDO3 (power) "Output Clock Supply Voltage.", 15 VDDO2 (power) "Output Clock Supply Voltage", 16 VDDO1 (power) "Output Clock Supply Voltage", 20 VDDO0 (power) "Output Clock Supply Voltage.", 23 GND (power) "Ground.", 24 VDD (power) "Core Supply Voltage.", 25 GND (power) "Ground Pad"

## Si5338L-A-GMR
designator U?
I2C-Programmable Any-Frequency, Any-Output Quad Clock Generator, 1.8 / 2.5 / 3.3 V, 0.16 to 350 MHz Output, -40 to 85 degC, 24-pin QFN, Tape and Reel; Manufacturer: Silicon Labs; PartNumber: Si5338L-A-GMR; Output Format: LVPECL; LVDS; LVCMOS; HCSL; SSTL; HSTL; Phase Jitter (RMS): 0.7 ps; Reference Inputs: 1; VDD: 1.8 V; 2.5 V; 3.3 V; Sub-Family: Clock Generators part2; DatasheetVersion: Rev. 1.3; PackageReference: QFN-24; PackageDescription: 24-Pin Quad-Flat No-Leads Package, Body 4 x 4 mm, Pitch 0.5 mm; Supplier 1: Mouser; Supplier Part Number 1: 634-SI5338L-A-GMR; Output Frequency (MHz): 0.16 to 350; Packing: Tape and Reel; Mounting Technology: Surface Mount; Code_JEDEC: MO-220; Code_IPC: J-STD-020; ComponentLink1Description: Manufacturer URL; ComponentLink1URL: http://www.silabs.com/; ComponentLink2Description: Datasheet; ComponentLink2URL: http://www.silabs.com/Support%20Documents/TechnicalDocs/Si5338.pdf; ComponentLink3Description: Package Specification; ComponentLink3URL: http://www.silabs.com/Support%20Documents/TechnicalDocs/Si5330.pdf
footprint SLAB-QFN-24-2500x2500TP_N (QFN, 24-Leads, Body 4x4mm, Pitch 0.5mm, Thermal Pad 2.5x2.5mm, IPC Medium Density)
footprint SLAB-QFN-24-2500x2500TP_L (QFN, 24-Leads, Body 4x4mm, Pitch 0.5mm, Thermal Pad 2.5x2.5mm, IPC High Density)
footprint SLAB-QFN-24-2500x2500TP_M (QFN, 24-Leads, Body 4x4mm, Pitch 0.5mm, Thermal Pad 2.5x2.5mm, IPC Low Density)
part A pins: 1 CLKIN (in) "These pins are used as the main differential clock input or as the XTAL input. See 3.2. Input Stage on page 18, Figure 3 and Figure 4, for connection details. Clock inputs to these pins must be ac-coupled. Keep the traces (See Datasheet)", 2 CLKINB (in) "These pins are used as the main differential clock input or as the XTAL input. See 3.2. Input Stage on page 18, Figure 3 and Figure 4, for connection details. Clock inputs to these pins must be ac-coupled. Keep the traces (See Datasheet)", 3 OEB (in) "OEB (for Si5338K/L/M devices only) Used as an output enable pin. 0 = All outputs enabled; 1 = All outputs disabled. By default, outputs are tri-stated when disabled", 4 I2C_LSB (in) "I2C_LSB (for Si5338A/B/C and Si5338K/L/M devices only) This is the LSB of the Si5338 I2C address. 0 = I2C address 70h (111 0000), 1 = I2C address 71h (111 0001).", 5 FDBK (in) "These pins can be used as a differential feedback input in zero delay mode or as a secondary clock input. See section 3.2, Figure 3, for termination details. See "3.10.6. Zero-Delay Mode" on page 27 for zero delay mode (See Datasheet)", 6 FDBKB (in) "These pins can be used as a differential feedback input in zero delay mode or as a secondary clock input. See section 3.2, Figure 3, for termination details. See "3.10.6. Zero-Delay Mode" on page 27 for zero delay mode (See Datasheet)", 8 INTR (oc) "Interrupt.", 9 CLK3B (hiz) "Output Clock B for Channel 3.", 10 CLK3A (hiz) "Output Clock A for Channel 3.", 12 SCL (in) "I2C Serial Clock Input", 13 CLK2B (hiz) "Output Clock B for Channel 2.", 14 CLK2A (hiz) "Output Clock A for Channel 2.", 17 CLK1B (hiz) "Output Clock B for Channel 1.", 18 CLK1A (hiz) "Output Clock A for Channel 1.", 19 SDA (io) "I2C Serial Data.", 21 CLK0B (hiz) "Output Clock B for Channel 0.", 22 CLK0A (hiz) "Output ClockA for Channel 0."
part B pins: 7 VDD (power) "Core Supply Voltage.", 11 VDDO3 (power) "Output Clock Supply Voltage.", 15 VDDO2 (power) "Output Clock Supply Voltage", 16 VDDO1 (power) "Output Clock Supply Voltage", 20 VDDO0 (power) "Output Clock Supply Voltage.", 23 GND (power) "Ground.", 24 VDD (power) "Core Supply Voltage.", 25 GND (power) "Ground Pad"